# Altium footprint library MSOP-8.PcbLib: 1 footprints
Each footprint in its own frame and in the unit in brackets; x right, y up, seen from the top. Pads: shape width x height; smd on the part's side, far side on the other; paste and mask are expansions set on the pad; w line width, h text height; cw(c..) or ccw(c..) is an arc to the next point about the centre after c.
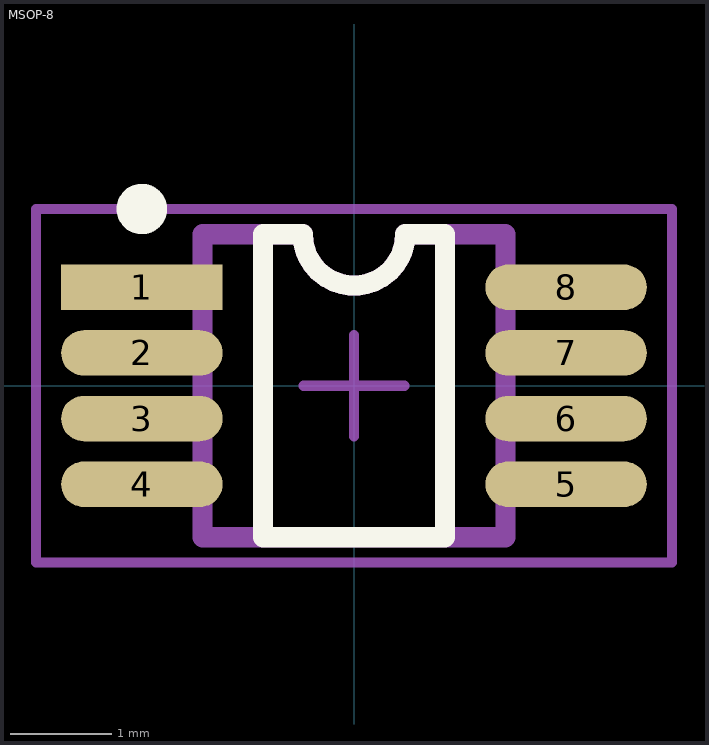
[diagram p0: the footprint, top view; thin cyan lines are the x and y axes]

## MSOP-8 [mm] "TSOP, 8-Leads, Body 3,0x3,0mm (max), Pitch 0,65mm, IPC Medium Density"
height 1.1
pads (8):
  rect 1.6x0.45 smd: 1(-2.1,0.975)
  oval 1.6x0.45 smd: 2(-2.1,0.325) 3(-2.1,-0.325) 4(-2.1,-0.975) 5(2.1,-0.975) 6(2.1,-0.325) 7(2.1,0.325) 8(2.1,0.975)
Top Overlay:
  circle w0.25: c-2.1,1.75 r0.125
  lines w0.2: -0.9,-1.5 -0.9,1.5 -0.508,1.5 ccw(c0,1.5) 0.508,1.5 0.9,1.5 0.9,-1.5 -0.9,-1.5
Mechanical 13:
  lines w0.2: -1.5,-1.5 -1.5,1.5 -0.508,1.5 ccw(c0,1.5) 0.508,1.5 1.5,1.5 1.5,-1.5 -1.5,-1.5
  text ".Designator" at -0.762,-1.143 h1.5
Mechanical 15:
  lines w0.1: -0.5,0 0.5,0 ; 0,-0.5 0,0.5 ; -3.15,-1.75 -3.15,1.75 3.15,1.75 3.15,-1.75 -3.15,-1.75
3D body: height 1, standoff -0.1, extent -2.469,-1.524 2.469,1.576